# EAGLE library part 502585-0470 (library 502585-0470)
Conn Wire to Board RCP 4 POS 1.5mm Solder RA SMD CLIK-Mate T/R Source: Datasheet
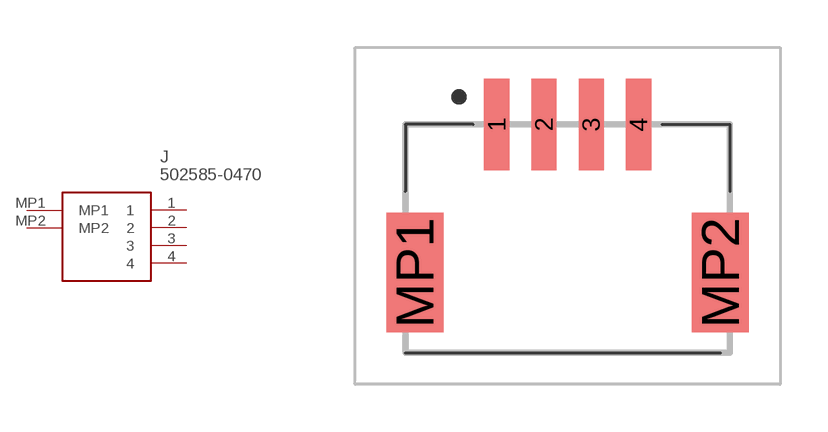
[diagram p0: symbol with the pads of 5025850470; footprint 5025850470]

Designator prefix J

## 502585-0470 (Description: Conn Wire to Board RCP 4 POS 1.5mm Solder RA SMD CLIK-Mate T/R; Height: 6.6mm; Manufacturer_Name: Molex; Manufacturer_Part_Number: 502585-0470; Mouser_Part_Number: 538-502585-0470; Mouser_Price-Stock: https://www.mouser.co.uk/ProductDetail/Molex/502585-0470?qs=3OKVfsn1b5AU8ip3wCejKg%3D%3D)  [5025850470]
1  1
2  2
3  3
4  4
MP1  MP1
MP2  MP2

## Footprint 5025850470 (pad centres in mm)
502585-0470-1
smd 0.8 x 2.9: 1 -2.25,3.625; 2 -0.75,3.625; 3 0.75,3.625; 4 2.25,3.625
smd 1.8 x 3.8: MP1 -4.85,-1.075; MP2 4.85,-1.075